# Altium schematic symbol library S 散热器.SchLib: 9 symbols
Pins are listed as number, name and electrical type; pins without a type are passive.

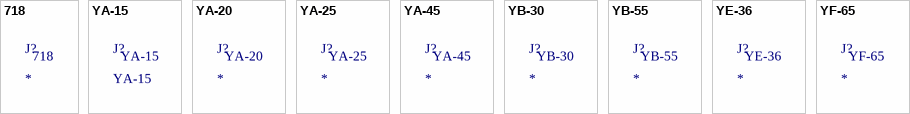
[diagram p0: symbols 718 to YF-65]

## 718
designator J?

## YA-15
designator J?

## YA-20
designator J?

## YA-25
designator J?

## YA-45
designator J?

## YB-30
designator J?

## YB-55
designator J?

## YE-36
designator J?

## YF-65
designator J?